# EAGLE library part BM30B-SRDS-G-TF (library Jack-connectors)
JST 1.0 mm pitch, Disconnectable Crimp style connector, Top entry type header, 30 pins
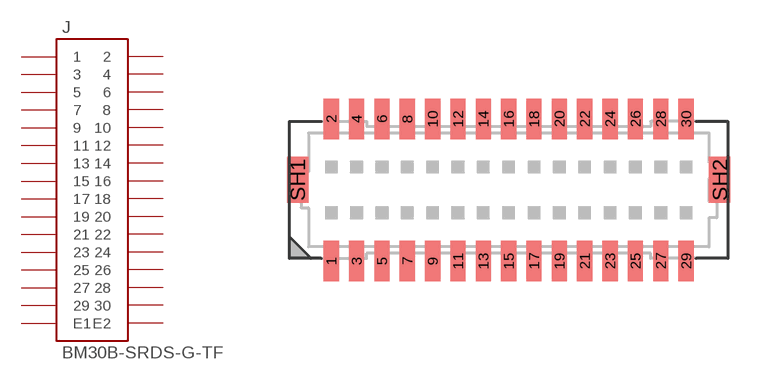
[diagram p18: symbol with the pads of BM30B-SRDS-G-TF; footprint BM30B-SRDS-G-TF]

Designator prefix J

## BM30B-SRDS-G-TF (DESCRIPTION: JST 1.0 mm pitch, Disconnectable Crimp style connector, Top entry type header, 30 pins; PACK: BM30B-SRDS-G-TF)  [BM30B-SRDS-G-TF]
1  1  pas
2  2  pas
3  3  pas
4  4  pas
5  5  pas
6  6  pas
7  7  pas
8  8  pas
9  9  pas
10  10  pas
11  11  pas
12  12  pas
13  13  pas
14  14  pas
15  15  pas
16  16  pas
17  17  pas
18  18  pas
19  19  pas
20  20  pas
21  21  pas
22  22  pas
23  23  pas
24  24  pas
25  25  pas
26  26  pas
27  27  pas
28  28  pas
29  29  pas
30  30  pas
SH1  E1  pas
SH2  E2  pas

## Footprint BM30B-SRDS-G-TF (pad centres in mm)
smd 0.6 x 1.6: 1 -7,-2.8; 2 -7,2.8; 3 -6,-2.8; 4 -6,2.8; 5 -5,-2.8; 6 -5,2.8; 7 -4,-2.8; 8 -4,2.8; 9 -3,-2.8; 10 -3,2.8; 11 -2,-2.8; 12 -2,2.8; 13 -1,-2.8; 14 -1,2.8; 15 0,-2.8; 16 0,2.8; 17 1,-2.8; 18 1,2.8; 19 2,-2.8; 20 2,2.8; 21 3,-2.8; 22 3,2.8; 23 4,-2.8; 24 4,2.8; 25 5,-2.8; 26 5,2.8; 27 6,-2.8; 28 6,2.8; 29 7,-2.8; 30 7,2.8
smd 0.85 x 1.8: SH1 -8.325,0.4; SH2 8.325,0.4